# EAGLE library part EA_LED94X40_MONO (library ea_v66)
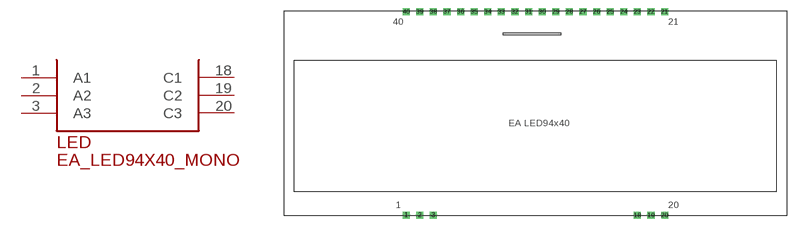
[diagram p10: symbol with the pads of EA_LED94X40; footprint EA_LED94X40]

Designator prefix LED

## EA_LED94X40_MONO  [EA_LED94X40]
1  A1  pas
2  A2  pas
3  A3  pas
18  C1  pas
19  C2  pas
20  C3  pas

## Footprint EA_LED94X40 (pad centres in mm)
drill 0.813 square: 1 0,0; 2 2.54,0; 3 5.08,0; 18 43.18,0; 19 45.72,0; 20 48.26,0; 21 48.26,38.1; 22 45.72,38.1; 23 43.18,38.1; 24 40.64,38.1; 25 38.1,38.1; 26 35.56,38.1; 27 33.02,38.1; 28 30.48,38.1; 29 27.94,38.1; 30 25.4,38.1; 31 22.86,38.1; 32 20.32,38.1; 33 17.78,38.1; 34 15.24,38.1; 35 12.7,38.1; 36 10.16,38.1; 37 7.62,38.1; 38 5.08,38.1; 39 2.54,38.1; 40 0,38.1